# Altium footprint library screwire.PcbLib: 148 footprints (part 1 of 10)
Each footprint in its own frame and in the unit in brackets; x right, y up, seen from the top. Pads: shape width x height; smd on the part's side, far side on the other; paste and mask are expansions set on the pad; w line width, h text height; cw(c..) or ccw(c..) is an arc to the next point about the centre after c.
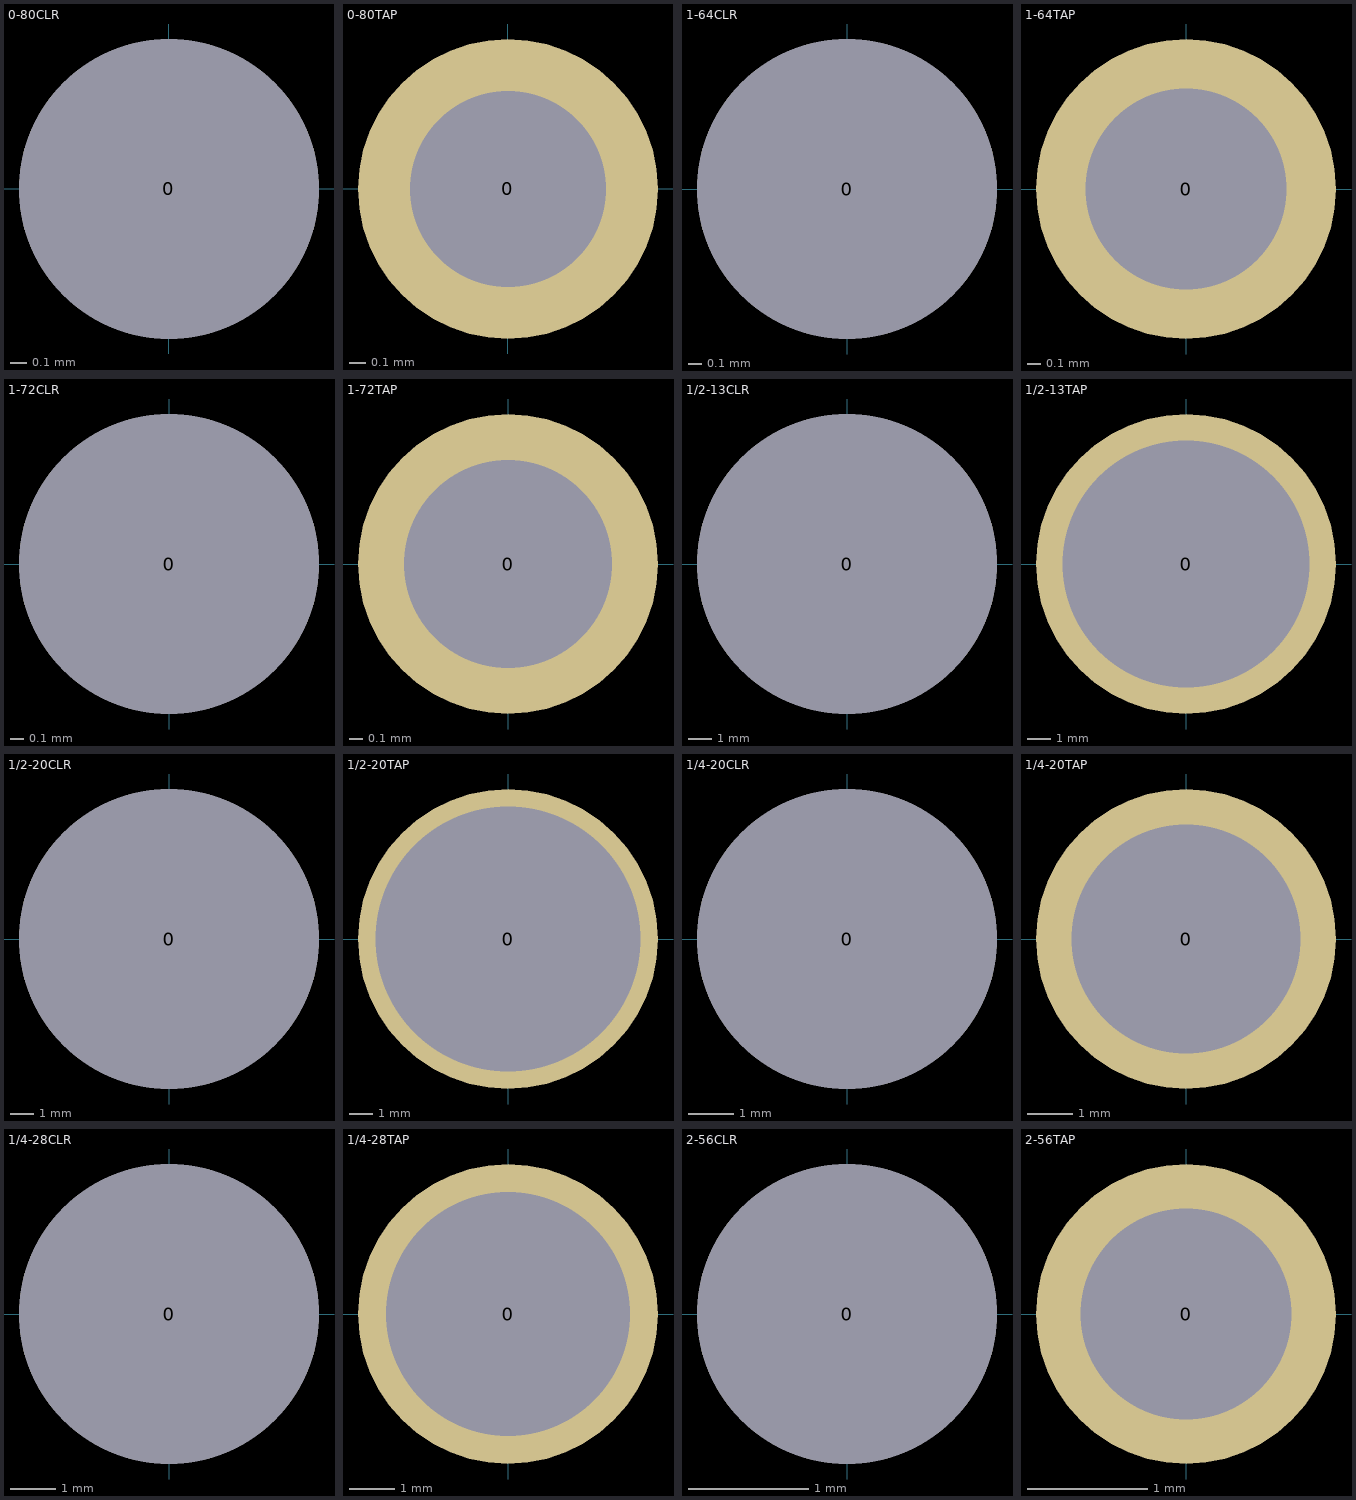
[diagram p0: the footprints below, top view; thin cyan lines are the x and y axes]

## 0-80CLR [mil]
pads (1):
  round 72 hole 72: 0(0,0)

## 0-80TAP [mil]
pads (1):
  round 72 hole 47: 0(0,0)

## 1-64CLR [mil]
pads (1):
  round 85 hole 85: 0(0,0)

## 1-64TAP [mil]
pads (1):
  round 85 hole 57: 0(0,0)

## 1-72CLR [mil]
pads (1):
  round 85 hole 85: 0(0,0)

## 1-72TAP [mil]
pads (1):
  round 85 hole 59: 0(0,0)

## 1/2-13CLR [mil]
pads (1):
  round 512 hole 512: 0(0,0)

## 1/2-13TAP [mil]
pads (1):
  round 512 hole 422: 0(0,0)

## 1/2-20CLR [mil]
pads (1):
  round 512 hole 512: 0(0,0)

## 1/2-20TAP [mil]
pads (1):
  round 512 hole 453: 0(0,0)

## 1/4-20CLR [mil]
pads (1):
  round 262 hole 262: 0(0,0)

## 1/4-20TAP [mil]
pads (1):
  round 262 hole 200: 0(0,0)

## 1/4-28CLR [mil]
pads (1):
  round 262 hole 262: 0(0,0)

## 1/4-28TAP [mil]
pads (1):
  round 262 hole 213: 0(0,0)

## 2-56CLR [mil]
pads (1):
  round 98 hole 98: 0(0,0)

## 2-56TAP [mil]
pads (1):
  round 98 hole 69: 0(0,0)